# EAGLE library part AR30N60 (library dubec)
AR30N60 - Active/Synchronous Rectifier used for secondary-side synchronous rectification with the output voltage at less than 10V
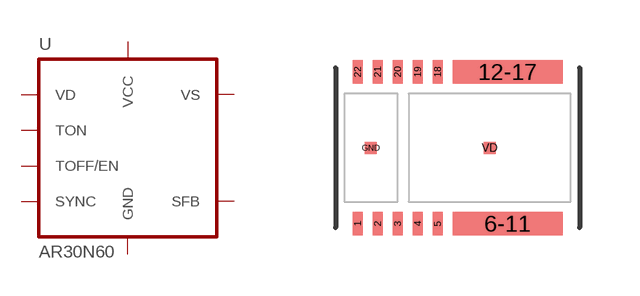
[diagram p30: symbol with the pads of 22-VFDFN; footprint 22-VFDFN]

Designator prefix -

## AR30N60PPA-13 (DIGIKEY_PART_#: AR30N60PPA-13DICT-ND; EPK: 486.06; MANUFACTURER: Diodes Incorporated; MFG_PART_#: AR30N60PPA-13; TEMP: -40°C ~ 125°C)  [22-VFDFN]
1  TON  pas
2  TOFF/EN  pas
3  SFB  pas
5  VS  pas
6-11  VS  pas
12-17  VD  pas
19  SYNC  pas
21  GND  pwr
22  VCC  pwr
GND  GND  pwr
VD  VD  pas

## Footprint 22-VFDFN (pad centres in mm)
smd 0.25 x 0.6: 1 -2.5,-1.9; 2 -2,-1.9; 3 -1.5,-1.9; 4 -1,-1.9; 5 -0.5,-1.9; 18 -0.5,1.9; 19 -1,1.9; 20 -1.5,1.9; 21 -2,1.9; 22 -2.5,1.9
smd 2.75 x 0.6: 6-11 1.25,-1.9; 12-17 1.25,1.9
smd 0.3 x 0.3: GND -2.165,0; VD 0.805,0